# Altium footprint library 二极管三极管.PcbLib: 29 footprints (part 2 of 2)
Each footprint in its own frame and in the unit in brackets; x right, y up, seen from the top. Pads: shape width x height; smd on the part's side, far side on the other; paste and mask are expansions set on the pad; w line width, h text height; cw(c..) or ccw(c..) is an arc to the next point about the centre after c.
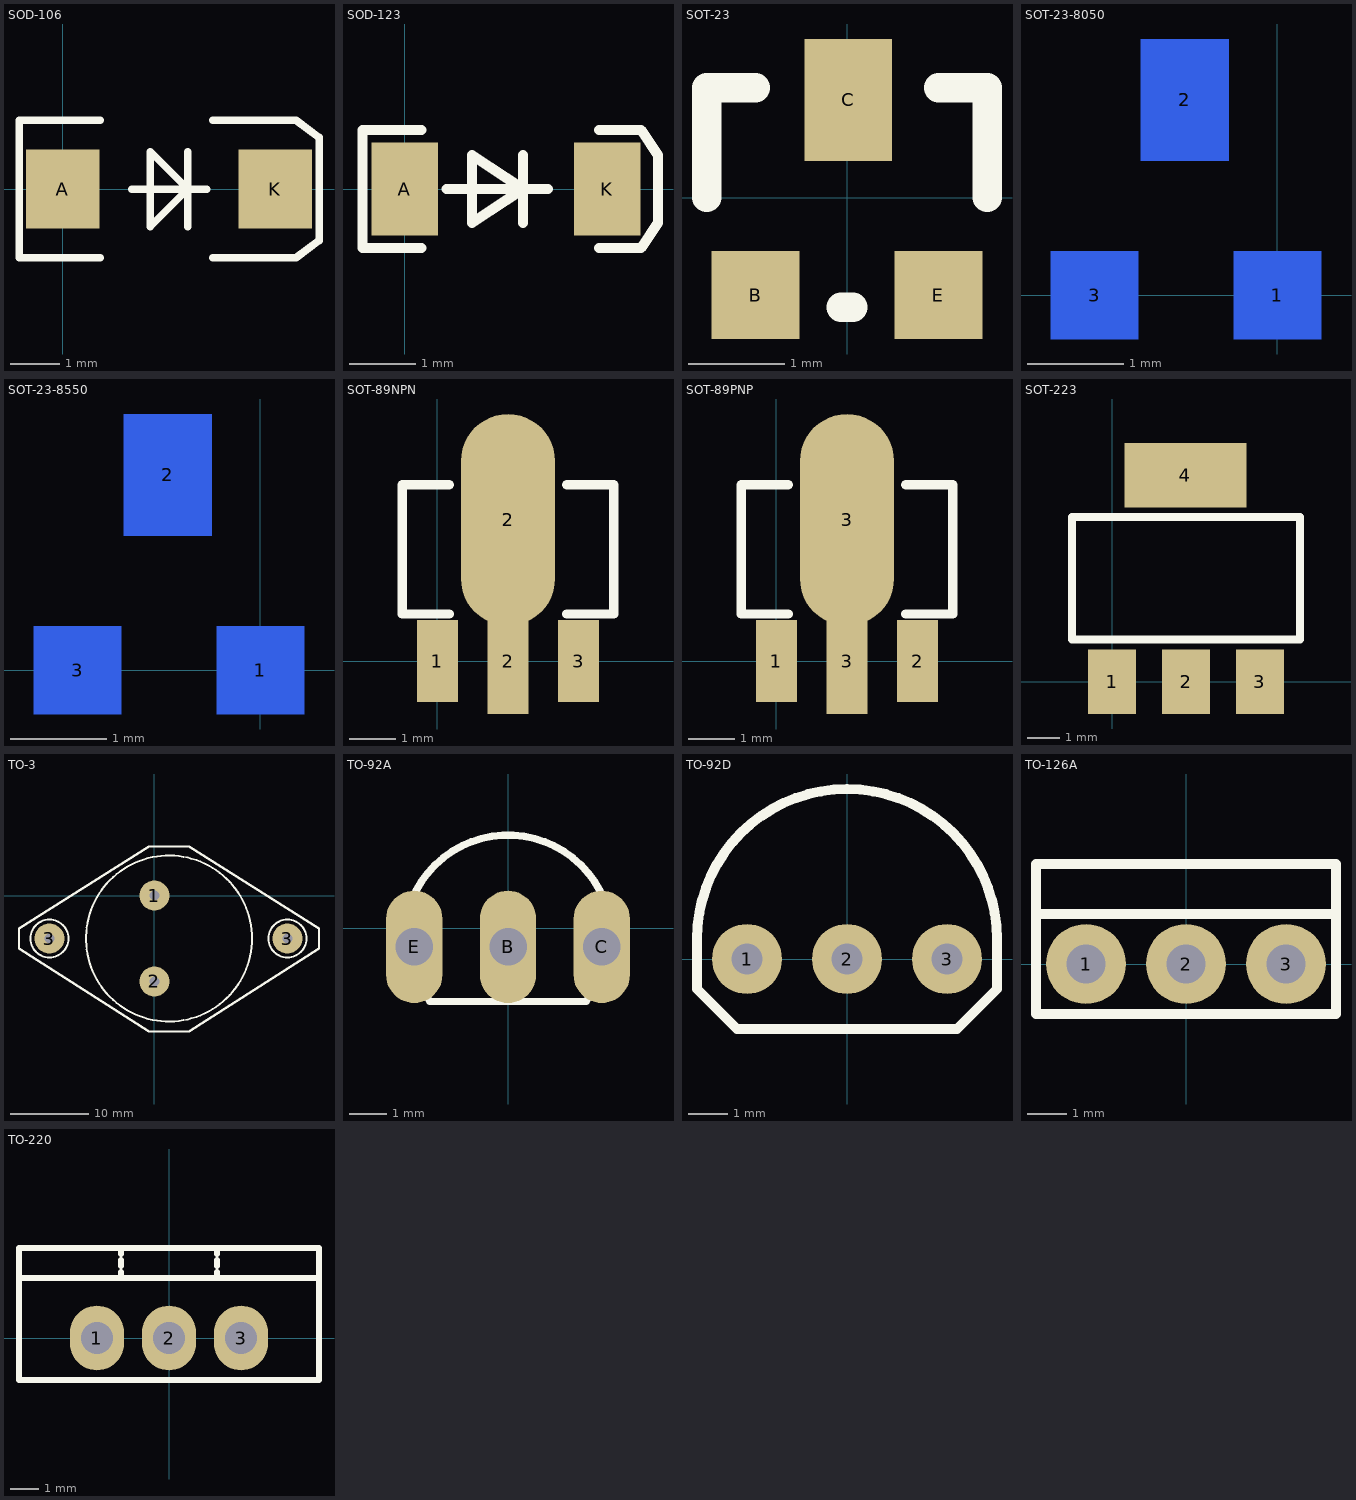
[diagram p1: the footprints below, top view; thin cyan lines are the x and y axes]

## SOD-106 [mm]
pads (2):
  rect 1.5x1.6 smd: A(0,0) K(4.318,0)
Top Overlay:
  lines w0.152: 0.762,-1.397 -0.889,-1.397 -0.889,1.397 0.762,1.397 ; 1.397,0 2.921,0 ; 2.54,-0.762 2.54,0.762 ; 3.048,-1.397 4.741,-1.397 5.207,-1.048 5.207,1.048 4.741,1.397 3.048,1.397 ; 1.778,-0.762 2.54,0 1.778,0.762 1.778,-0.762

## SOD-123 [mm]
pads (2):
  rect 1x1.4 smd: A(0,0) K(3.048,0)
Top Overlay:
  lines w0.152: 0.254,-0.889 -0.635,-0.889 -0.635,0.889 0.254,0.889 ; 0.635,0 2.159,0 ; 1.778,-0.508 1.778,0.508 ; 2.921,-0.889 3.556,-0.889 3.81,-0.508 3.81,0 3.81,0.508 3.556,0.889 2.921,0.889 ; 1.016,-0.508 1.778,0 1.016,0.508 1.016,-0.508

## SOT-23 [mil]
pads (3):
  rect 36x36 smd: B(-37.5,-40) E(37.5,-40)
  rect 36x50 smd: C(0.5,40)
Top Overlay:
  lines w12: -57.5,0 -57.5,45 -37.5,45 ; -2.5,-45 2.5,-45 ; 37.5,45 57.5,45 57.5,0

## SOT-23-8050 [mil]
pads (3):
  rect 36x36 smd far side: 1(0,0) 3(-75,0)
  rect 36x50 smd far side: 2(-38,80)
Bottom Overlay:
  lines w10: -95,40 -95,85 -75,85 ; -40,-5 -35,-5 ; 0,85 20,85 20,40

## SOT-23-8550 [mil]
pads (3):
  rect 36x36 smd far side: 1(0,0) 3(-75,0)
  rect 36x50 smd far side: 2(-38,80)
Bottom Overlay:
  lines w10: -95,40 -95,85 -75,85 ; -40,-5 -35,-5 ; 0,85 20,85 20,40

## SOT-89NPN [mil]
pads (4):
  rect 35x70 smd: 1(0,0) 3(120,0)
  rect 35x90 smd: 2(60,0)
  oval 80x180 smd: 2(60,120)
Top Overlay:
  lines w8: 10,40 -30,40 -30,150 10,150 ; 110,40 150,40 150,150 110,150

## SOT-89PNP [mil]
pads (4):
  rect 35x70 smd: 1(0,0) 2(120,0)
  rect 35x90 smd: 3(60,0)
  oval 80x180 smd: 3(60,120)
Top Overlay:
  lines w8: 10,40 -30,40 -30,150 10,150 ; 110,40 150,40 150,150 110,150

## SOT-223 [mil]
pads (4):
  rect 59x79 smd: 1(0,0) 2(90.55,0) 3(181.1,0)
  rect 150x79 smd: 4(89.88,253.54)
Top Overlay:
  lines w10: -49.45,52 230.55,52 230.55,202 -49.45,202 -49.45,52

## TO-3 [mil]
pads (4):
  round 150 hole 50: 1(0,0) 2(0,-430) 3(-525,-215) 3(665,-215)
Top Overlay:
  circle w10: c-525,-215 r95
  circle w10: c665,-215 r95
  circle w10: c73,-215 r415
  lines w12: -677,-265 -677,-165 -27,245 173,245 823,-165 823,-265 173,-680 -27,-680 -677,-265

## TO-92A [mil]
pads (3):
  oval 60x120 hole 40: B(0,-20) C(100,-20) E(-100,-20)
Top Overlay:
  lines w7.87: -102.76,29.85 cw(c0,-11.67) 102.76,29.85 ; -89.08,-69.71 -83.33,-78.33 83.33,-78.33 89.08,-69.71

## TO-92D [mil]
pads (3):
  round 70 hole 31.5: 1(-100,0) 2(0,0) 3(100,0)
Top Overlay:
  lines w10: -150,-30 -110,-70 110,-70 150,-30 150,20 ccw(c0,20) -150,20 -150,-30

## TO-126A [mil]
pads (3):
  round 80 hole 39: 1(-100,0) 2(0,0) 3(100,0)
Top Overlay:
  lines w10: 150,40 150,100 -150,100 -150,50 ; -150,50 -150,-50 150,-50 150,50 -150,50

## TO-220 [mil]
pads (3):
  oval 75x90 hole 45: 1(-100,0) 2(0,0) 3(100,0)
Top Overlay:
  lines w7.87: -66.67,83.33 -66.67,91.67 ; -66.67,100 -66.67,108.33 ; -66.67,116.67 -66.67,125 ; 66.67,83.33 66.67,91.67 ; 66.67,100 66.67,108.33 ; 66.67,116.67 66.67,125 ; -208.33,83.33 -208.33,125 208.33,125 208.33,83.33 ; -208.33,83.33 -208.33,-58.33 208.33,-58.33 208.33,83.33 ; -208.33,83.33 208.33,83.33